# EAGLE library part 52991-0208 (library wheat)
conn, molex 52991-0208 2x10 0,5mm pitch recept
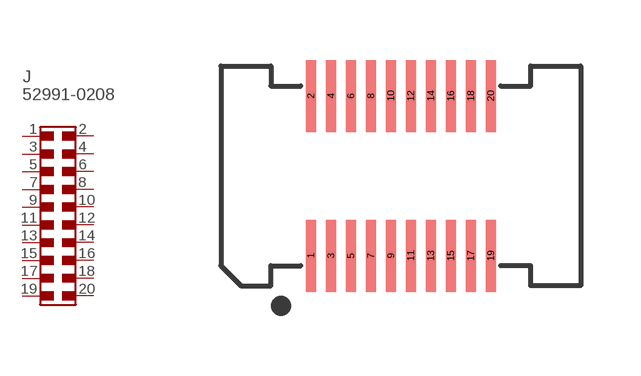
[diagram p108: symbol with the pads of 52991-0208; footprint 52991-0208]

Designator prefix J

## 52991-0208  [52991-0208]
1  1  pas
2  2  pas
3  3  pas
4  4  pas
5  5  pas
6  6  pas
7  7  pas
8  8  pas
9  9  pas
10  10  pas
11  11  pas
12  12  pas
13  13  pas
14  14  pas
15  15  pas
16  16  pas
17  17  pas
18  18  pas
19  19  pas
20  20  pas

## Footprint 52991-0208 (pad centres in mm)
Connector, Molex 52991-0208 20 pos SMT recept 0.5mm
smd 0.25 x 1.8: 1 -2.25,-2; 2 -2.25,2; 3 -1.75,-2; 4 -1.75,2; 5 -1.25,-2; 6 -1.25,2; 7 -0.75,-2; 8 -0.75,2; 9 -0.25,-2; 10 -0.25,2; 11 0.25,-2; 12 0.25,2; 13 0.75,-2; 14 0.75,2; 15 1.25,-2; 16 1.25,2; 17 1.75,-2; 18 1.75,2; 19 2.25,-2; 20 2.25,2